# Altium schematic symbol library TPSM84209RKHT.SchLib: 1 symbol
Pins are listed as number, name and electrical type; pins without a type are passive.

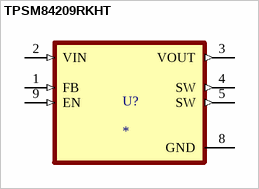
[diagram p0: symbol TPSM84209RKHT]

## TPSM84209RKHT
designator U?
MF: {'manufacturer': u'Texas Instruments'}; MP: TPSM84209RKHT; Package: None; Price: None; Value: *; Availability: Unavailable
footprint VREG_TPSM84209RKHT
pins: 1 FB (in), 2 VIN (in), 3 VOUT (out), 4 SW (out), 5 SW (out), 8 GND (power), 9 EN (in)